# Altium integrated library Analog Devices Data Converters Analog-to-Digital Converters.IntLib: 2404 symbols (part 306 of 346)
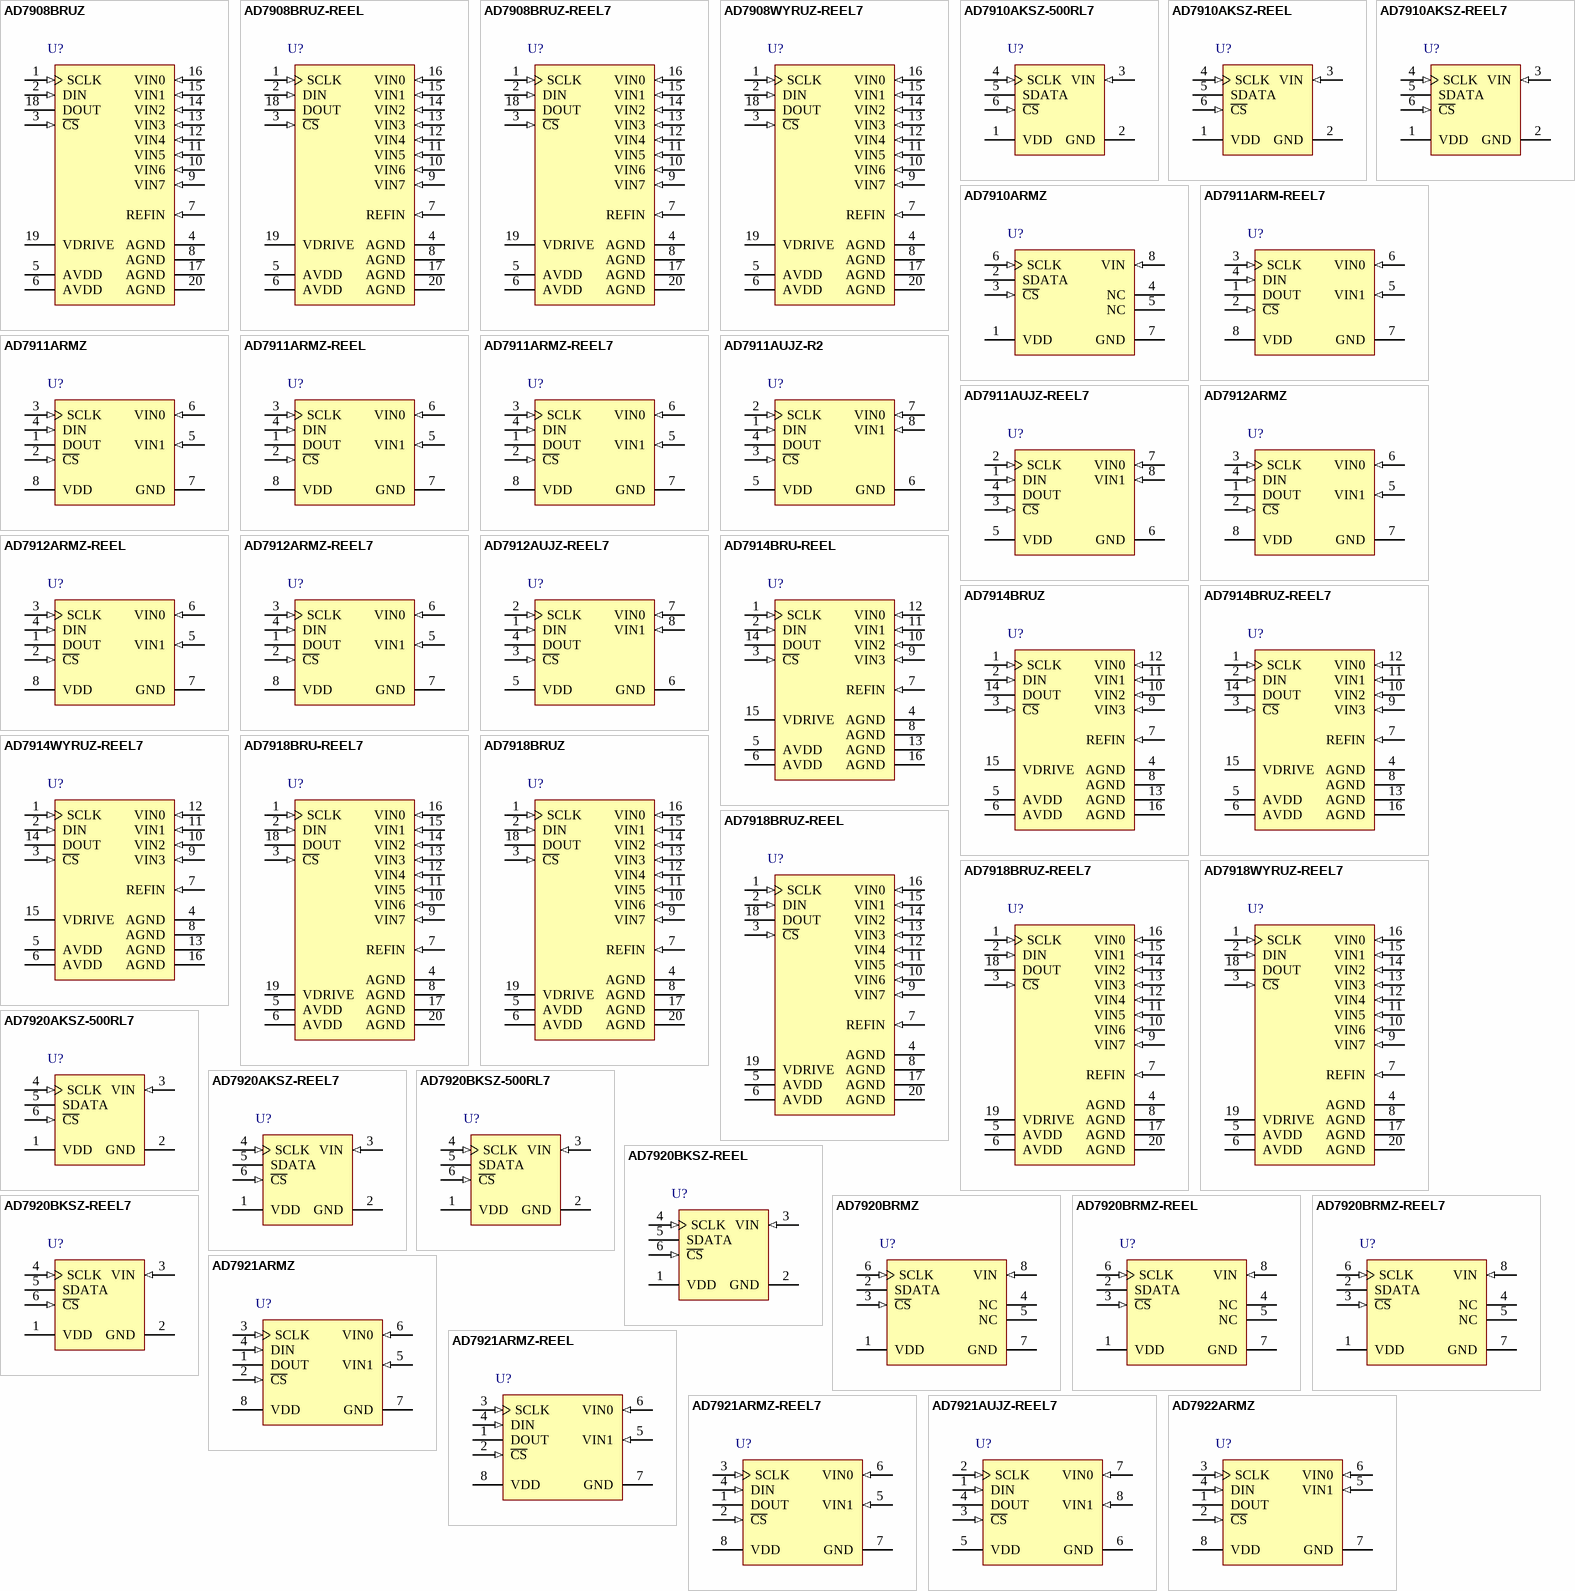
[diagram p418: symbols AD7908BRUZ to AD7922ARMZ]

## AD7921AUJZ-REEL7
designator U?
Dual 12-Bit Analog-to-Digital Converter with Serial, SPI Interface, 2.35 to 5.25 V, 250KSPS, -40 to +85 degC, UJ-8, Pb-Free, Reel; Generic Part Number: AD7921; Manufacturer: Analog Devices; PartNumber: AD7921AUJZ-REEL7; Resolution (Bits): 12; Channels: 2; Throughput Rate (SPS): 250K; Interface: Ser, SPI; DatasheetVersion: Rev.A; PackageVersion: Dec-2004; PackageReference: UJ-8; PackageDescription: 8-Lead Thin Small Outline Transistor Package [TSOT]; Supplier 1: Digi-Key; Supplier Part Number 1: AD7921AUJZ-REEL7TR-ND; Supplier 2: Digi-Key; Supplier Part Number 2: AD7921AUJZ-REEL7CT-ND; Supplier 3: Digi-Key; Supplier Part Number 3: AD7921AUJZ-REEL7DKR-ND; Supplier 4: Newark; Supplier Part Number 4: 59K6000; Supplier 5: Mouser; Supplier Part Number 5: 584-AD7921AUJZ-R7; RoHS: Y; Packing: Reel; Mounting Technology: Surface Mount; Code_JEDEC: MO-193-BA*; ComponentLink1Description: Manufacturer URL; ComponentLink1URL: http://www.analog.com/en/index.html; ComponentLink2Description: Datasheet; ComponentLink2URL: http://www.analog.com/static/imported-files/data_sheets/AD7911_7921.pdf; ComponentLink3Description: Package Specification; ComponentLink3URL: http://www.analog.com/static/imported-files/packages/PKG_PDF/TSOT(UJ)/UJ_8.pdf; ComponentLink4Description: Product URL; ComponentLink4URL: http://www.analog.com/en/analog-to-digital-converters/ad-converters/ad7921/products/product.html
footprint UJ-8_N (SOP, 8-Leads, Body 2.9x1.6mm, Pitch 0.65mm, IPC Medium Density)
footprint UJ-8_L (SOP, 8-Leads, Body 2.9x1.6mm, Pitch 0.65mm, IPC High Density)
footprint UJ-8_M (SOP, 8-Leads, Body 2.9x1.6mm, Pitch 0.65mm, IPC Low Density)
pins: 1 DIN (in) "Data In. Logic input. The channel to be converted is provided on this input and is clocked into an internal register on the falling edge of SCLK.", 2 SCLK (in) "Serial Clock. Logic input. SCLK provides the serial clock for accessing data from the part. This clock input is also used as the clock source for the AD7911/AD7921’s conversion process.", 3 ~{CS} (in) "Chip Select. Active low logic input. This input provides the dual function of initiating conversions on the AD7911/AD7921 and framing the serial data transfer.", 4 DOUT (hiz) "Data Out. Logic output. The conversion result from the AD7911/AD7921 is provided on this output as a serial data stream. The bits are clocked out on the falling edge of the SCLK signal.For the AD7921, the data stream (See Datasheet)", 5 VDD (power) "Power Supply Input. The VDD range for the AD7911/AD7921 is from 2.35 V to 5.25 V.", 6 GND (power) "Analog Ground. Ground reference point for all circuitry on the AD7911/AD7921. All analog input signals should be referred to this GND voltage.", 7 VIN0 (in) "Analog Inputs. These two single-ended analog input channels are multiplexed into the on-chip track-and-hold amplifier. The analog input channel to be converted is selected by writing to the third MSB on the DIN pin. The (See Datasheet)", 8 VIN1 (in) "Analog Inputs. These two single-ended analog input channels are multiplexed into the on-chip track-and-hold amplifier. The analog input channel to be converted is selected by writing to the third MSB on the DIN pin. The (See Datasheet)"

## AD7922ARMZ
designator U?
Dual 12-Bit Analog-to-Digital Converter with Serial, SPI Interface, 2.35 to 5.25 V, 1MSPS, -40 to +85 degC, RM-8, Pb-Free, Tube; Generic Part Number: AD7922; Manufacturer: Analog Devices; PartNumber: AD7922ARMZ; Resolution (Bits): 12; Channels: 2; Throughput Rate (SPS): 1M; Interface: Ser, SPI; DatasheetVersion: Rev.0; PackageVersion: Aug-2005; PackageReference: RM-8; PackageDescription: 8-Lead Mini Small Outline Package [MSOP]; Supplier 1: Digi-Key; Supplier Part Number 1: AD7922ARMZ-ND; Supplier 2: Farnell; Supplier Part Number 2: 1078323; Supplier 3: Newark; Supplier Part Number 3: 59K6004; Supplier 4: Mouser; Supplier Part Number 4: 584-AD7922ARMZ; RoHS: Y; Packing: Tube; Mounting Technology: Surface Mount; Code_JEDEC: MO-187-AA; ComponentLink1Description: Manufacturer URL; ComponentLink1URL: http://www.analog.com/en/index.html; ComponentLink2Description: Datasheet; ComponentLink2URL: http://www.analog.com/static/imported-files/data_sheets/AD7912_7922.pdf; ComponentLink3Description: Package Specification; ComponentLink3URL: http://www.analog.com/static/imported-files/packages/PKG_PDF/MSOP%28RM%29/RM_8.pdf; ComponentLink4Description: Product URL; ComponentLink4URL: http://www.analog.com/en/analog-to-digital-converters/ad-converters/ad7922/products/product.html
footprint RM-8_N (TSOP, 8-Leads, Body 3x3mm, Pitch 0.65mm, IPC Medium Density)
footprint RM-8_L (TSOP, 8-Leads, Body 3x3mm, Pitch 0.65mm, IPC High Density)
footprint RM-8_M (TSOP, 8-Leads, Body 3x3mm, Pitch 0.65mm, IPC Low Density)
pins: 1 DOUT (hiz) "Data Out. Logic output. The conversion result from the AD7912/AD7922 is provided on this output as a serial data stream. The bits are clocked out on the falling edge of the SCLK signal.For the AD7922, the data stream (See Datasheet)", 2 ~{CS} (in) "Chip Select. Active low logic input. This input provides the dual function of initiating conversions on the AD7912/AD7922 and framing the serial data transfer.", 3 SCLK (in) "Serial Clock. Logic input. SCLK provides the serial clock for accessing data from the part. This clock input is also used as the clock source for the AD7912/AD7922’s conversion process.", 4 DIN (in) "Data In. Logic input. The channel to be converted is provided on this input and is clocked into an internal register on the falling edge of SCLK.", 5 VIN1 (in) "Analog Inputs. These two single-ended analog input channels are multiplexed into the on-chip track-and-hold amplifier. The analog input channel to be converted is selected by writing to the third MSB on the DIN pin. The (See Datasheet)", 6 VIN0 (in) "Analog Inputs. These two single-ended analog input channels are multiplexed into the on-chip track-and-hold amplifier. The analog input channel to be converted is selected by writing to the third MSB on the DIN pin. The (See Datasheet)", 7 GND (power) "Analog Ground. Ground reference point for all circuitry on the AD7912/AD7922. All analog input signals should be referred to this GND voltage.", 8 VDD (power) "Power Supply Input. The VDD range for the AD7912/AD7922 is from 2.35 V to 5.25 V."

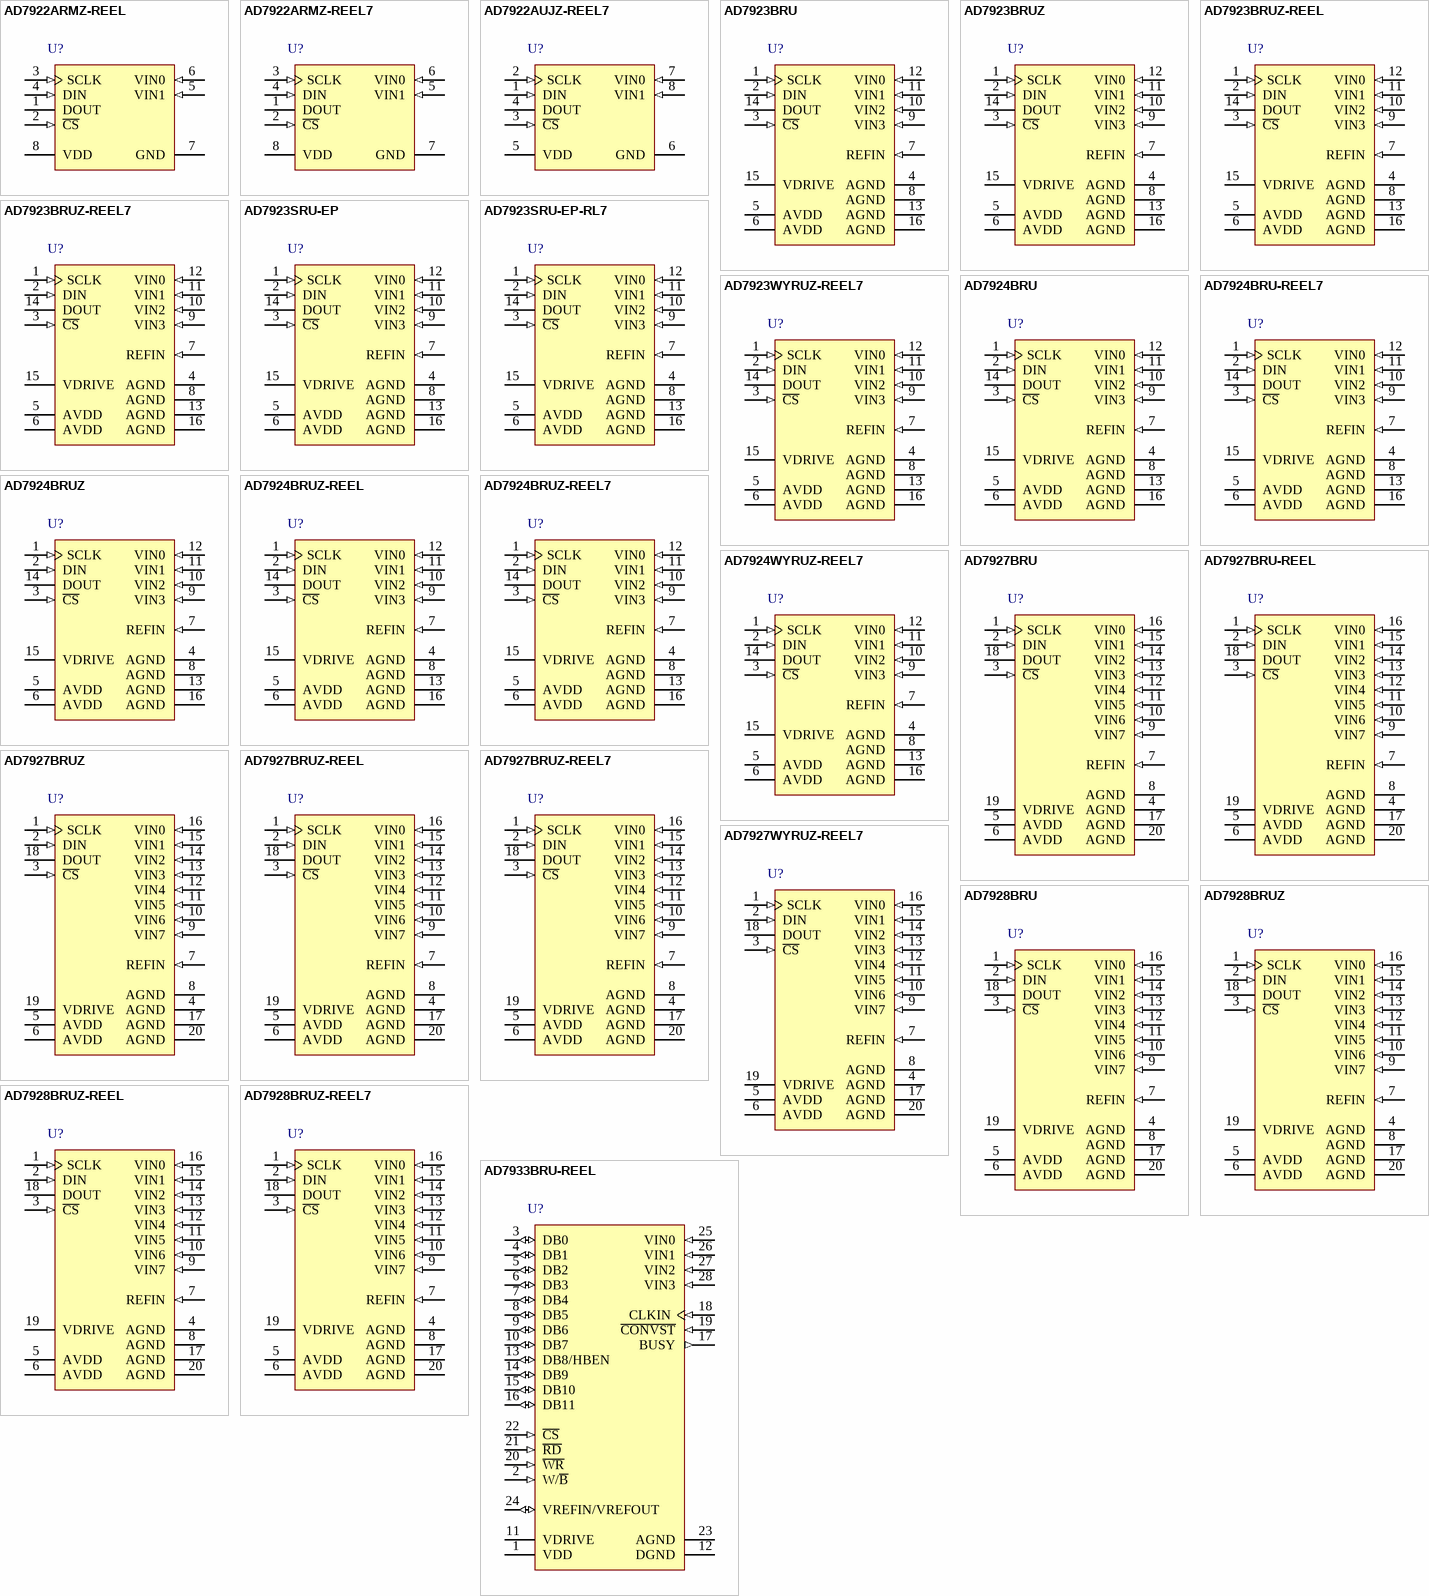
[diagram p90: symbols AD7922ARMZ-REEL to AD7933BRU-REEL]

## AD7922ARMZ-REEL
designator U?
Dual 12-Bit Analog-to-Digital Converter with Serial, SPI Interface, 2.35 to 5.25 V, 1MSPS, -40 to +85 degC, RM-8, Pb-Free, Reel; Generic Part Number: AD7922; Manufacturer: Analog Devices; PartNumber: AD7922ARMZ-REEL; Resolution (Bits): 12; Channels: 2; Throughput Rate (SPS): 1M; Interface: Ser, SPI; DatasheetVersion: Rev.0; PackageVersion: Aug-2005; PackageReference: RM-8; PackageDescription: 8-Lead Mini Small Outline Package [MSOP]; Supplier 1: Digi-Key; Supplier Part Number 1: AD7922ARMZ-REEL-ND; Supplier 2: Mouser; Supplier Part Number 2: 584-AD7922ARMZ-R; RoHS: Y; Packing: Reel; Mounting Technology: Surface Mount; Code_JEDEC: MO-187-AA; ComponentLink1Description: Manufacturer URL; ComponentLink1URL: http://www.analog.com/en/index.html; ComponentLink2Description: Datasheet; ComponentLink2URL: http://www.analog.com/static/imported-files/data_sheets/AD7912_7922.pdf; ComponentLink3Description: Package Specification; ComponentLink3URL: http://www.analog.com/static/imported-files/packages/PKG_PDF/MSOP%28RM%29/RM_8.pdf; ComponentLink4Description: Product URL; ComponentLink4URL: http://www.analog.com/en/analog-to-digital-converters/ad-converters/ad7922/products/product.html
footprint RM-8_N (TSOP, 8-Leads, Body 3x3mm, Pitch 0.65mm, IPC Medium Density)
footprint RM-8_L (TSOP, 8-Leads, Body 3x3mm, Pitch 0.65mm, IPC High Density)
footprint RM-8_M (TSOP, 8-Leads, Body 3x3mm, Pitch 0.65mm, IPC Low Density)
pins: 1 DOUT (hiz) "Data Out. Logic output. The conversion result from the AD7912/AD7922 is provided on this output as a serial data stream. The bits are clocked out on the falling edge of the SCLK signal.For the AD7922, the data stream (See Datasheet)", 2 ~{CS} (in) "Chip Select. Active low logic input. This input provides the dual function of initiating conversions on the AD7912/AD7922 and framing the serial data transfer.", 3 SCLK (in) "Serial Clock. Logic input. SCLK provides the serial clock for accessing data from the part. This clock input is also used as the clock source for the AD7912/AD7922’s conversion process.", 4 DIN (in) "Data In. Logic input. The channel to be converted is provided on this input and is clocked into an internal register on the falling edge of SCLK.", 5 VIN1 (in) "Analog Inputs. These two single-ended analog input channels are multiplexed into the on-chip track-and-hold amplifier. The analog input channel to be converted is selected by writing to the third MSB on the DIN pin. The (See Datasheet)", 6 VIN0 (in) "Analog Inputs. These two single-ended analog input channels are multiplexed into the on-chip track-and-hold amplifier. The analog input channel to be converted is selected by writing to the third MSB on the DIN pin. The (See Datasheet)", 7 GND (power) "Analog Ground. Ground reference point for all circuitry on the AD7912/AD7922. All analog input signals should be referred to this GND voltage.", 8 VDD (power) "Power Supply Input. The VDD range for the AD7912/AD7922 is from 2.35 V to 5.25 V."

## AD7922ARMZ-REEL7
designator U?
Dual 12-Bit Analog-to-Digital Converter with Serial, SPI Interface, 2.35 to 5.25 V, 1MSPS, -40 to +85 degC, RM-8, Pb-Free, Reel; Generic Part Number: AD7922; Manufacturer: Analog Devices; PartNumber: AD7922ARMZ-REEL7; Resolution (Bits): 12; Channels: 2; Throughput Rate (SPS): 1M; Interface: Ser, SPI; DatasheetVersion: Rev.0; PackageVersion: Aug-2005; PackageReference: RM-8; PackageDescription: 8-Lead Mini Small Outline Package [MSOP]; Supplier 1: Digi-Key; Supplier Part Number 1: AD7922ARMZ-REEL7-ND; Supplier 2: Mouser; Supplier Part Number 2: 584-AD7922ARMZ-R7; RoHS: Y; Packing: Reel; Mounting Technology: Surface Mount; Code_JEDEC: MO-187-AA; ComponentLink1Description: Manufacturer URL; ComponentLink1URL: http://www.analog.com/en/index.html; ComponentLink2Description: Datasheet; ComponentLink2URL: http://www.analog.com/static/imported-files/data_sheets/AD7912_7922.pdf; ComponentLink3Description: Package Specification; ComponentLink3URL: http://www.analog.com/static/imported-files/packages/PKG_PDF/MSOP%28RM%29/RM_8.pdf; ComponentLink4Description: Product URL; ComponentLink4URL: http://www.analog.com/en/analog-to-digital-converters/ad-converters/ad7922/products/product.html
footprint RM-8_N (TSOP, 8-Leads, Body 3x3mm, Pitch 0.65mm, IPC Medium Density)
footprint RM-8_L (TSOP, 8-Leads, Body 3x3mm, Pitch 0.65mm, IPC High Density)
footprint RM-8_M (TSOP, 8-Leads, Body 3x3mm, Pitch 0.65mm, IPC Low Density)
pins: 1 DOUT (hiz) "Data Out. Logic output. The conversion result from the AD7912/AD7922 is provided on this output as a serial data stream. The bits are clocked out on the falling edge of the SCLK signal.For the AD7922, the data stream (See Datasheet)", 2 ~{CS} (in) "Chip Select. Active low logic input. This input provides the dual function of initiating conversions on the AD7912/AD7922 and framing the serial data transfer.", 3 SCLK (in) "Serial Clock. Logic input. SCLK provides the serial clock for accessing data from the part. This clock input is also used as the clock source for the AD7912/AD7922’s conversion process.", 4 DIN (in) "Data In. Logic input. The channel to be converted is provided on this input and is clocked into an internal register on the falling edge of SCLK.", 5 VIN1 (in) "Analog Inputs. These two single-ended analog input channels are multiplexed into the on-chip track-and-hold amplifier. The analog input channel to be converted is selected by writing to the third MSB on the DIN pin. The (See Datasheet)", 6 VIN0 (in) "Analog Inputs. These two single-ended analog input channels are multiplexed into the on-chip track-and-hold amplifier. The analog input channel to be converted is selected by writing to the third MSB on the DIN pin. The (See Datasheet)", 7 GND (power) "Analog Ground. Ground reference point for all circuitry on the AD7912/AD7922. All analog input signals should be referred to this GND voltage.", 8 VDD (power) "Power Supply Input. The VDD range for the AD7912/AD7922 is from 2.35 V to 5.25 V."

## AD7922AUJZ-REEL7
designator U?
Dual 12-Bit Analog-to-Digital Converter with Serial, SPI Interface, 2.35 to 5.25 V, 1MSPS, -40 to +85 degC, UJ-8, Pb-Free, Reel; Generic Part Number: AD7922; Manufacturer: Analog Devices; PartNumber: AD7922AUJZ-REEL7; Resolution (Bits): 12; Channels: 2; Throughput Rate (SPS): 1M; Interface: Ser, SPI; DatasheetVersion: Rev.0; PackageVersion: Dec-2004; PackageReference: UJ-8; PackageDescription: 8-Lead Thin Small Outline Transistor Package [TSOT]; Supplier 1: Digi-Key; Supplier Part Number 1: AD7922AUJZ-REEL7TR-ND; Supplier 2: Digi-Key; Supplier Part Number 2: AD7922AUJZ-REEL7CT-ND; Supplier 3: Digi-Key; Supplier Part Number 3: AD7922AUJZ-REEL7DKR-ND; Supplier 4: Newark; Supplier Part Number 4: 59K6009; Supplier 5: Mouser; Supplier Part Number 5: 584-AD7922AUJZ-R7; RoHS: Y; Packing: Reel; Mounting Technology: Surface Mount; Code_JEDEC: MO-193-BA*; ComponentLink1Description: Manufacturer URL; ComponentLink1URL: http://www.analog.com/en/index.html; ComponentLink2Description: Datasheet; ComponentLink2URL: http://www.analog.com/static/imported-files/data_sheets/AD7912_7922.pdf; ComponentLink3Description: Package Specification; ComponentLink3URL: http://www.analog.com/static/imported-files/packages/PKG_PDF/TSOT(UJ)/UJ_8.pdf; ComponentLink4Description: Product URL; ComponentLink4URL: http://www.analog.com/en/analog-to-digital-converters/ad-converters/ad7922/products/product.html
footprint UJ-8_N (SOP, 8-Leads, Body 2.9x1.6mm, Pitch 0.65mm, IPC Medium Density)
footprint UJ-8_L (SOP, 8-Leads, Body 2.9x1.6mm, Pitch 0.65mm, IPC High Density)
footprint UJ-8_M (SOP, 8-Leads, Body 2.9x1.6mm, Pitch 0.65mm, IPC Low Density)
pins: 1 DIN (in) "Data In. Logic input. The channel to be converted is provided on this input and is clocked into an internal register on the falling edge of SCLK.", 2 SCLK (in) "Serial Clock. Logic input. SCLK provides the serial clock for accessing data from the part. This clock input is also used as the clock source for the AD7912/AD7922's conversion process.", 3 ~{CS} (in) "Chip Select. Active low logic input. This input provides the dual function of initiating conversions on the AD7912/AD7922 and framing the serial data transfer.", 4 DOUT (hiz) "Data Out. Logic output. The conversion result from the AD7912/AD7922 is provided on this output as a serial data stream. The bits are clocked out on the falling edge of the SCLK signal.For the AD7922, the data stream (See Datasheet)", 5 VDD (power) "Power Supply Input. The VDD range for the AD7912/AD7922 is from 2.35 V to 5.25 V.", 6 GND (power) "Analog Ground. Ground reference point for all circuitry on the AD7912/AD7922. All analog input signals should be referred to this GND voltage.", 7 VIN0 (in) "Analog Inputs. These two single-ended analog input channels are multiplexed into the on-chip track-and-hold amplifier. The analog input channel to be converted is selected by writing to the third MSB on the DIN pin. The (See Datasheet)", 8 VIN1 (in) "Analog Inputs. These two single-ended analog input channels are multiplexed into the on-chip track-and-hold amplifier. The analog input channel to be converted is selected by writing to the third MSB on the DIN pin. The (See Datasheet)"

## AD7923BRU
designator U?
Quad 12-Bit Analog-to-Digital Converter with Serial, SPI Interface and Sequencer, 200KSPS, -40 to +125 degC, RU-16, Tube; Generic Part Number: AD7923; Manufacturer: Analog Devices; PartNumber: AD7923BRU; Resolution (Bits): 12; Channels: 4; Throughput Rate (SPS): 200K; Interface: Ser, SPI; Automotive Qualified: Yes; DatasheetVersion: Rev.C; PackageVersion: Nov-2002; PackageReference: RU-16; PackageDescription: 16-Lead Thin Shrink Small Outline Package [TSSOP]; Supplier 1: Mouser; Supplier Part Number 1: 584-AD7923BRU; RoHS: N; Packing: Tube; Mounting Technology: Surface Mount; Code_JEDEC: MO-153-AB; ComponentLink1Description: Manufacturer URL; ComponentLink1URL: http://www.analog.com/en/index.html; ComponentLink2Description: Datasheet; ComponentLink2URL: http://www.analog.com/static/imported-files/data_sheets/AD7923.pdf; ComponentLink3Description: Package Specification; ComponentLink3URL: http://www.analog.com/static/imported-files/packages/36244347913743854010197452789RU16.pdf; ComponentLink4Description: Product URL; ComponentLink4URL: http://www.analog.com/en/analog-to-digital-converters/ad-converters/ad7923/products/product.html
footprint RU-16_N (TSOP, 16-Leads, Body 5x4.4mm, Pitch 0.65mm, IPC Medium Density)
footprint RU-16_L (TSOP, 16-Leads, Body 5x4.4mm, Pitch 0.65mm, IPC High Density)
footprint RU-16_M (TSOP, 16-Leads, Body 5x4.4mm, Pitch 0.65mm, IPC Low Density)
pins: 1 SCLK (in) "Serial Clock. Logic Input. SCLK provides the serial clock for accessing data for the part. This clock input is also used as the clock source for the AD7923 conversion process.", 2 DIN (in) "Data In. Logic Input. Data to be written to the control register is provided on this input and is clocked into the register on the falling edge of SCLK (see the Control Register Descriptions section).", 3 ~{CS} (in) "Chip Select. Active low logic input. This input provides the dual function of initiating conversions on the AD7923 and framing the serial data transfer", 4 AGND (power) "Analog Ground. Ground reference point for all analog circuitry on the AD7923. All analog input signals and any external reference signal should be referred to this AGND voltage. All AGND pins should be connected together.", 5 AVDD (power) "Analog Power Supply Input. The AVDD range for the AD7923 is from 2.7 V to 5.25 V. For the 0 V to 2 x REFIN range, AVDD should be from 4.75 V to 5.25 V.", 6 AVDD (power) "Analog Power Supply Input. The AVDD range for the AD7923 is from 2.7 V to 5.25 V. For the 0 V to 2 x REFIN range, AVDD should be from 4.75 V to 5.25 V.", 7 REFIN (in) "Reference Input for the AD7923. An external reference must be applied to this input. The voltage range for the external reference is 2.5 V +/- 1% for specified performance.", 8 AGND (power) "Analog Ground. Ground reference point for all analog circuitry on the AD7923. All analog input signals and any external reference signal should be referred to this AGND voltage. All AGND pins should be connected together.", 9 VIN3 (in) "Analog Input 0 through Analog Input 3. Four single-ended analog input channels that are multiplexed into the onchip track-and-hold. The analog input channel to be converted is selected by using the Address Bits ADD1 and ADD0 (See Datasheet)", 10 VIN2 (in) "Analog Input 0 through Analog Input 3. Four single-ended analog input channels that are multiplexed into the onchip track-and-hold. The analog input channel to be converted is selected by using the Address Bits ADD1 and ADD0 (See Datasheet)", 11 VIN1 (in) "Analog Input 0 through Analog Input 3. Four single-ended analog input channels that are multiplexed into the onchip track-and-hold. The analog input channel to be converted is selected by using the Address Bits ADD1 and ADD0 (See Datasheet)", 12 VIN0 (in) "Analog Input 0 through Analog Input 3. Four single-ended analog input channels that are multiplexed into the onchip track-and-hold. The analog input channel to be converted is selected by using the Address Bits ADD1 and ADD0 (See Datasheet)", 13 AGND (power) "Analog Ground. Ground reference point for all analog circuitry on the AD7923. All analog input signals and any external reference signal should be referred to this AGND voltage. All AGND pins should be connected together.", 14 DOUT (hiz) "Data Out. Logic Output. The conversion result from the AD7923 is provided on this output pin as a serial data stream. The AD7923 serial data stream consists of two leading 0s, and two address bits indicating which channel (See Datasheet)", 15 VDRIVE (power) "Logic Power Supply Input. The voltage supplied at this pin determines at which voltage the serial interface operates.", 16 AGND (power) "Analog Ground. Ground reference point for all analog circuitry on the AD7923. All analog input signals and any external reference signal should be referred to this AGND voltage. All AGND pins should be connected together."